# Altium schematic symbol library SCH - Interface - EHT - Amphenol RJHSE3M80.Schlib: 1 symbol
Pins are listed as number, name and electrical type; pins without a type are passive.

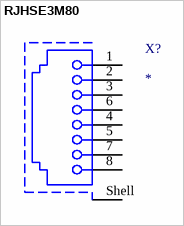
[diagram p0: symbol RJHSE3M80]

## RJHSE3M80
designator X?
Connector
pins: 1, 2, 3, 4, 5, 6, 7, 8, Shell